# Altium schematic symbol library XC7A35T底板.SCHLIB: 69 symbols
Pins are listed as number, name and electrical type; pins without a type are passive.

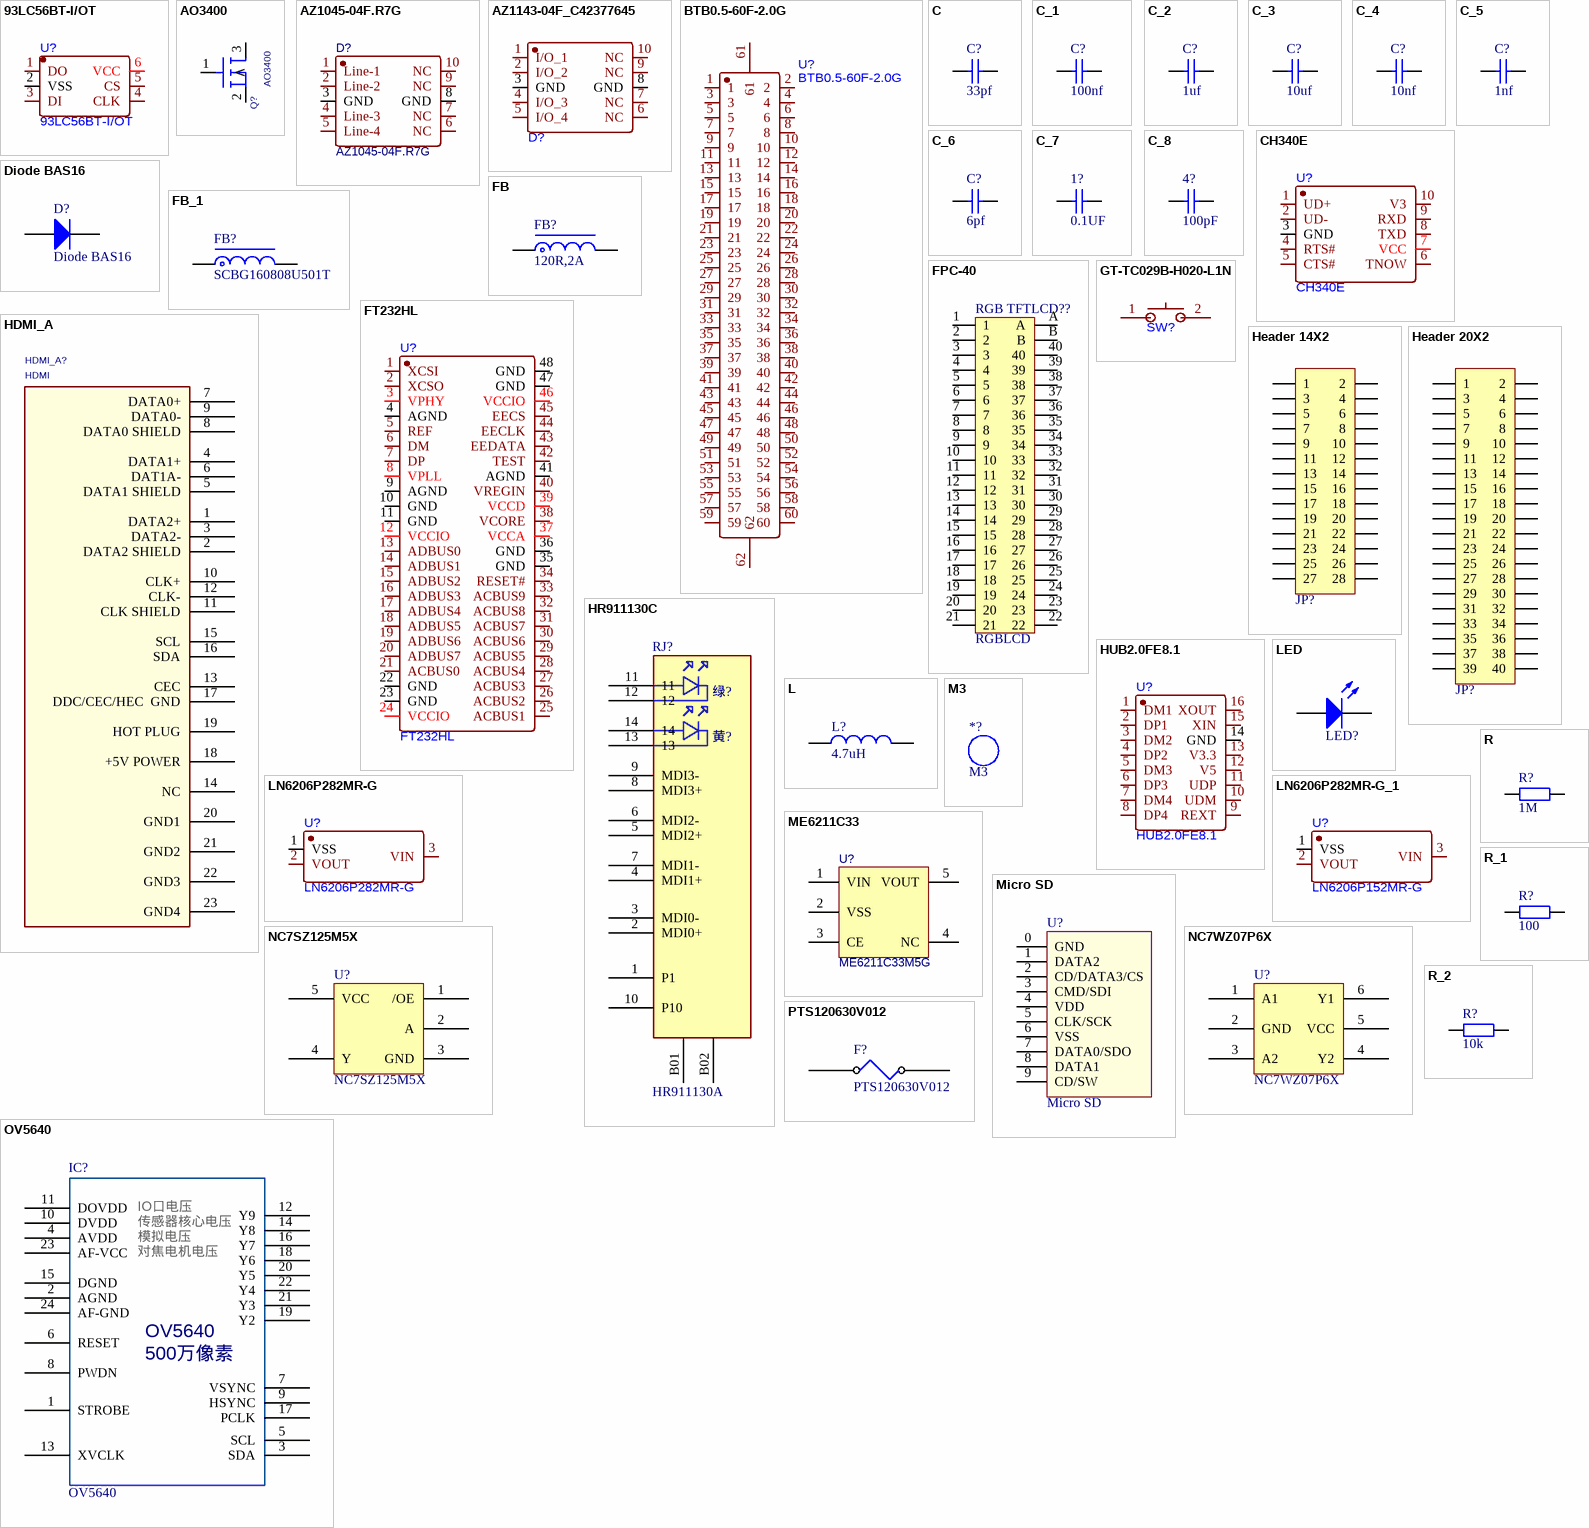
[diagram p0: symbols 93LC56BT-I/OT to R_2]

## 93LC56BT-I/OT
designator U?
footprint SOT-23-6_L2.9-W1.6-P0.95-LS2.8-BR
pins: 1 DO, 2 VSS, 3 DI, 4 CLK, 5 CS, 6 VCC

## AO3400
designator Q?
PSpiceTemplate: X^@REFDES %d %g %s @MODEL
footprint SOT23
simulation model AO3400
pins: 1 G, 2 S, 3 D

## AZ1045-04F.R7G
designator D?
BOM_Manufacturer: AMAZING; Contributor: LCSC; BOM_Supplier: LCSC; BOM_Supplier Part: C356811; BOM_Manufacturer Part: AZ1045-04F.R7G; spicePre: D; spiceSymbolName: AZ1045-04F.R7G
footprint DFN2510P10E
pins: 1 Line-1, 2 Line-2, 3 GND, 4 Line-3, 5 Line-4, 6 NC, 7 NC, 8 GND, 9 NC, 10 NC

## AZ1143-04F_C42377645
designator D?  (value not drawn)
footprint DFN-10_L2.5-W1.0-P0.50-BL-A
pins: 1 I/O_1, 2 I/O_2, 3 GND, 4 I/O_3, 5 I/O_4, 6 NC, 7 NC, 8 GND, 9 NC, 10 NC

## BTB0.5-60F-2.0G
designator U?
footprint CONN-SMD_60P-P0.50_BTB0.5-60F-2.0G
pins: 1, 2, 3, 4, 5, 6, 7, 8, 9, 10, 11, 12, 13, 14, 15, 16, 17, 18, 19, 20, 21, 22, 23, 24, 25, 26, 27, 28, 29, 30, 31, 32, 33, 34, 35, 36, 37, 38, 39, 40, 41, 42, 43, 44, 45, 46, 47, 48, 49, 50, 51, 52, 53, 54, 55, 56, 57, 58, 59, 60, 61, 62

## C
designator C?, comment 33pf
贴片电容/MLCC电容; BOM名称: 无极性贴片电容; 联系下单店铺卖家 免费帮你查找封装: 联系下单店铺卖家 免费技术支持
footprint C0201_L (贴片MLCC电容)
footprint C0402_L (贴片MLCC电容)
footprint C0603_L (贴片MLCC电容)
footprint C0805_L (贴片MLCC电容)
footprint C1206_L (贴片MLCC电容)
footprint C1210_L (贴片MLCC电容)
footprint C1808_L (贴片MLCC电容)
footprint C1812_L (贴片MLCC电容                  联系卖家 免费查找封装)
footprint C1825_L (贴片MLCC电容)
footprint C2225_L (贴片MLCC电容)
footprint C0201_M (贴片MLCC电容                联系卖家 免费查找封装)
footprint C0402_M (贴片MLCC电容)
footprint C0603_M (贴片MLCC电容)
footprint C0805_M (贴片MLCC电容)
footprint C1206_M (贴片MLCC电容)
footprint C1210_M (贴片MLCC电容)
footprint C1808_M (贴片MLCC电容)
footprint C1812_M (贴片MLCC电容)
footprint C1825_M (贴片MLCC电容      联系卖家 免费查找封装)
footprint C2225_M (贴片MLCC电容)
footprint C0201_NS (贴片MLCC电容-无丝印)
footprint C0402_NS (贴片MLCC电容-无丝印)
footprint C01005_NS (贴片MLCC电容-无丝印)
footprint C0805_NS (贴片MLCC电容-无丝印)
footprint C1206_NS (贴片MLCC电容-无丝印)
footprint C1210_NS (贴片MLCC电容 -无丝印)
footprint C0603_NS (贴片MLCC电容-无丝印)
footprint C0204_NS (贴片MLCC电容-无丝印)
footprint C1111_NS (贴片MLCC电容-无丝印)
footprint C2220 (贴片MLCC电容)
footprint C3838 (贴片MLCC电容-无丝印)
pins: 1, 2

## C_1
designator C?, comment 100nf
贴片电容/MLCC电容; BOM名称: 无极性贴片电容; 联系下单店铺卖家 免费帮你查找封装: 联系下单店铺卖家 免费技术支持
footprint C0201_L (贴片MLCC电容)
footprint C0402_L (贴片MLCC电容)
footprint C0603_L (贴片MLCC电容)
footprint C0805_L (贴片MLCC电容)
footprint C1206_L (贴片MLCC电容)
footprint C1210_L (贴片MLCC电容)
footprint C1808_L (贴片MLCC电容)
footprint C1812_L (贴片MLCC电容                  联系卖家 免费查找封装)
footprint C1825_L (贴片MLCC电容)
footprint C2225_L (贴片MLCC电容)
footprint C0201_M (贴片MLCC电容                联系卖家 免费查找封装)
footprint C0402_M (贴片MLCC电容)
footprint C0603_M (贴片MLCC电容)
footprint C0805_M (贴片MLCC电容)
footprint C1206_M (贴片MLCC电容)
footprint C1210_M (贴片MLCC电容)
footprint C1808_M (贴片MLCC电容)
footprint C1812_M (贴片MLCC电容)
footprint C1825_M (贴片MLCC电容      联系卖家 免费查找封装)
footprint C2225_M (贴片MLCC电容)
footprint C0201_NS (贴片MLCC电容-无丝印)
footprint C0402_NS (贴片MLCC电容-无丝印)
footprint C01005_NS (贴片MLCC电容-无丝印)
footprint C0805_NS (贴片MLCC电容-无丝印)
footprint C1206_NS (贴片MLCC电容-无丝印)
footprint C1210_NS (贴片MLCC电容 -无丝印)
footprint C0603_NS (贴片MLCC电容-无丝印)
footprint C0204_NS (贴片MLCC电容-无丝印)
footprint C1111_NS (贴片MLCC电容-无丝印)
footprint C2220 (贴片MLCC电容)
footprint C3838 (贴片MLCC电容-无丝印)
pins: 1, 2

## C_2
designator C?, comment 1uf
贴片电容/MLCC电容; BOM名称: 无极性贴片电容; 联系下单店铺卖家 免费帮你查找封装: 联系下单店铺卖家 免费技术支持
footprint C0201_L (贴片MLCC电容)
footprint C0402_L (贴片MLCC电容)
footprint C0603_L (贴片MLCC电容)
footprint C0805_L (贴片MLCC电容)
footprint C1206_L (贴片MLCC电容)
footprint C1210_L (贴片MLCC电容)
footprint C1808_L (贴片MLCC电容)
footprint C1812_L (贴片MLCC电容                  联系卖家 免费查找封装)
footprint C1825_L (贴片MLCC电容)
footprint C2225_L (贴片MLCC电容)
footprint C0201_M (贴片MLCC电容                联系卖家 免费查找封装)
footprint C0402_M (贴片MLCC电容)
footprint C0603_M (贴片MLCC电容)
footprint C0805_M (贴片MLCC电容)
footprint C1206_M (贴片MLCC电容)
footprint C1210_M (贴片MLCC电容)
footprint C1808_M (贴片MLCC电容)
footprint C1812_M (贴片MLCC电容)
footprint C1825_M (贴片MLCC电容      联系卖家 免费查找封装)
footprint C2225_M (贴片MLCC电容)
footprint C0201_NS (贴片MLCC电容-无丝印)
footprint C0402_NS (贴片MLCC电容-无丝印)
footprint C01005_NS (贴片MLCC电容-无丝印)
footprint C0805_NS (贴片MLCC电容-无丝印)
footprint C1206_NS (贴片MLCC电容-无丝印)
footprint C1210_NS (贴片MLCC电容 -无丝印)
footprint C0603_NS (贴片MLCC电容-无丝印)
footprint C0204_NS (贴片MLCC电容-无丝印)
footprint C1111_NS (贴片MLCC电容-无丝印)
footprint C2220 (贴片MLCC电容)
footprint C3838 (贴片MLCC电容-无丝印)
pins: 1, 2

## C_3
designator C?, comment 10uf
贴片电容/MLCC电容; BOM名称: 无极性贴片电容; 联系下单店铺卖家 免费帮你查找封装: 联系下单店铺卖家 免费技术支持
footprint C0201_L (贴片MLCC电容)
footprint C0402_L (贴片MLCC电容)
footprint C0603_L (贴片MLCC电容)
footprint C0805_L (贴片MLCC电容)
footprint C1206_L (贴片MLCC电容)
footprint C1210_L (贴片MLCC电容)
footprint C1808_L (贴片MLCC电容)
footprint C1812_L (贴片MLCC电容                  联系卖家 免费查找封装)
footprint C1825_L (贴片MLCC电容)
footprint C2225_L (贴片MLCC电容)
footprint C0201_M (贴片MLCC电容                联系卖家 免费查找封装)
footprint C0402_M (贴片MLCC电容)
footprint C0603_M (贴片MLCC电容)
footprint C0805_M (贴片MLCC电容)
footprint C1206_M (贴片MLCC电容)
footprint C1210_M (贴片MLCC电容)
footprint C1808_M (贴片MLCC电容)
footprint C1812_M (贴片MLCC电容)
footprint C1825_M (贴片MLCC电容      联系卖家 免费查找封装)
footprint C2225_M (贴片MLCC电容)
footprint C0201_NS (贴片MLCC电容-无丝印)
footprint C0402_NS (贴片MLCC电容-无丝印)
footprint C01005_NS (贴片MLCC电容-无丝印)
footprint C0805_NS (贴片MLCC电容-无丝印)
footprint C1206_NS (贴片MLCC电容-无丝印)
footprint C1210_NS (贴片MLCC电容 -无丝印)
footprint C0603_NS (贴片MLCC电容-无丝印)
footprint C0204_NS (贴片MLCC电容-无丝印)
footprint C1111_NS (贴片MLCC电容-无丝印)
footprint C2220 (贴片MLCC电容)
footprint C3838 (贴片MLCC电容-无丝印)
pins: 1, 2

## C_4
designator C?, comment 10nf
贴片电容/MLCC电容; BOM名称: 无极性贴片电容; 联系下单店铺卖家 免费帮你查找封装: 联系下单店铺卖家 免费技术支持
footprint C0201_L (贴片MLCC电容)
footprint C0402_L (贴片MLCC电容)
footprint C0603_L (贴片MLCC电容)
footprint C0805_L (贴片MLCC电容)
footprint C1206_L (贴片MLCC电容)
footprint C1210_L (贴片MLCC电容)
footprint C1808_L (贴片MLCC电容)
footprint C1812_L (贴片MLCC电容                  联系卖家 免费查找封装)
footprint C1825_L (贴片MLCC电容)
footprint C2225_L (贴片MLCC电容)
footprint C0201_M (贴片MLCC电容                联系卖家 免费查找封装)
footprint C0402_M (贴片MLCC电容)
footprint C0603_M (贴片MLCC电容)
footprint C0805_M (贴片MLCC电容)
footprint C1206_M (贴片MLCC电容)
footprint C1210_M (贴片MLCC电容)
footprint C1808_M (贴片MLCC电容)
footprint C1812_M (贴片MLCC电容)
footprint C1825_M (贴片MLCC电容      联系卖家 免费查找封装)
footprint C2225_M (贴片MLCC电容)
footprint C0201_NS (贴片MLCC电容-无丝印)
footprint C0402_NS (贴片MLCC电容-无丝印)
footprint C01005_NS (贴片MLCC电容-无丝印)
footprint C0805_NS (贴片MLCC电容-无丝印)
footprint C1206_NS (贴片MLCC电容-无丝印)
footprint C1210_NS (贴片MLCC电容 -无丝印)
footprint C0603_NS (贴片MLCC电容-无丝印)
footprint C0204_NS (贴片MLCC电容-无丝印)
footprint C1111_NS (贴片MLCC电容-无丝印)
footprint C2220 (贴片MLCC电容)
footprint C3838 (贴片MLCC电容-无丝印)
pins: 1, 2

## C_5
designator C?, comment 1nf
贴片电容/MLCC电容; BOM名称: 无极性贴片电容; 联系下单店铺卖家 免费帮你查找封装: 联系下单店铺卖家 免费技术支持
footprint C0201_L (贴片MLCC电容)
footprint C0402_L (贴片MLCC电容)
footprint C0603_L (贴片MLCC电容)
footprint C0805_L (贴片MLCC电容)
footprint C1206_L (贴片MLCC电容)
footprint C1210_L (贴片MLCC电容)
footprint C1808_L (贴片MLCC电容)
footprint C1812_L (贴片MLCC电容                  联系卖家 免费查找封装)
footprint C1825_L (贴片MLCC电容)
footprint C2225_L (贴片MLCC电容)
footprint C0201_M (贴片MLCC电容                联系卖家 免费查找封装)
footprint C0402_M (贴片MLCC电容)
footprint C0603_M (贴片MLCC电容)
footprint C0805_M (贴片MLCC电容)
footprint C1206_M (贴片MLCC电容)
footprint C1210_M (贴片MLCC电容)
footprint C1808_M (贴片MLCC电容)
footprint C1812_M (贴片MLCC电容)
footprint C1825_M (贴片MLCC电容      联系卖家 免费查找封装)
footprint C2225_M (贴片MLCC电容)
footprint C0201_NS (贴片MLCC电容-无丝印)
footprint C0402_NS (贴片MLCC电容-无丝印)
footprint C01005_NS (贴片MLCC电容-无丝印)
footprint C0805_NS (贴片MLCC电容-无丝印)
footprint C1206_NS (贴片MLCC电容-无丝印)
footprint C1210_NS (贴片MLCC电容 -无丝印)
footprint C0603_NS (贴片MLCC电容-无丝印)
footprint C0204_NS (贴片MLCC电容-无丝印)
footprint C1111_NS (贴片MLCC电容-无丝印)
footprint C2220 (贴片MLCC电容)
footprint C3838 (贴片MLCC电容-无丝印)
pins: 1, 2

## C_6
designator C?, comment 6pf
贴片电容/MLCC电容; BOM名称: 无极性贴片电容; 联系下单店铺卖家 免费帮你查找封装: 联系下单店铺卖家 免费技术支持
footprint C0201_L (贴片MLCC电容)
footprint C0402_L (贴片MLCC电容)
footprint C0603_L (贴片MLCC电容)
footprint C0805_L (贴片MLCC电容)
footprint C1206_L (贴片MLCC电容)
footprint C1210_L (贴片MLCC电容)
footprint C1808_L (贴片MLCC电容)
footprint C1812_L (贴片MLCC电容                  联系卖家 免费查找封装)
footprint C1825_L (贴片MLCC电容)
footprint C2225_L (贴片MLCC电容)
footprint C0201_M (贴片MLCC电容                联系卖家 免费查找封装)
footprint C0402_M (贴片MLCC电容)
footprint C0603_M (贴片MLCC电容)
footprint C0805_M (贴片MLCC电容)
footprint C1206_M (贴片MLCC电容)
footprint C1210_M (贴片MLCC电容)
footprint C1808_M (贴片MLCC电容)
footprint C1812_M (贴片MLCC电容)
footprint C1825_M (贴片MLCC电容      联系卖家 免费查找封装)
footprint C2225_M (贴片MLCC电容)
footprint C0201_NS (贴片MLCC电容-无丝印)
footprint C0402_NS (贴片MLCC电容-无丝印)
footprint C01005_NS (贴片MLCC电容-无丝印)
footprint C0805_NS (贴片MLCC电容-无丝印)
footprint C1206_NS (贴片MLCC电容-无丝印)
footprint C1210_NS (贴片MLCC电容 -无丝印)
footprint C0603_NS (贴片MLCC电容-无丝印)
footprint C0204_NS (贴片MLCC电容-无丝印)
footprint C1111_NS (贴片MLCC电容-无丝印)
footprint C2220 (贴片MLCC电容)
footprint C3838 (贴片MLCC电容-无丝印)
pins: 1, 2

## C_7
designator 1?, comment 0.1UF
贴片电容/MLCC电容; BOM名称: 无极性贴片电容; 联系下单店铺卖家 免费帮你查找封装: 联系下单店铺卖家 免费技术支持
footprint C0201_L (贴片MLCC电容)
footprint C0402_L (贴片MLCC电容)
footprint C0603_L (贴片MLCC电容)
footprint C0805_L (贴片MLCC电容)
footprint C1206_L (贴片MLCC电容)
footprint C1210_L (贴片MLCC电容)
footprint C1808_L (贴片MLCC电容)
footprint C1812_L (贴片MLCC电容                  联系卖家 免费查找封装)
footprint C1825_L (贴片MLCC电容)
footprint C2225_L (贴片MLCC电容)
footprint C0201_M (贴片MLCC电容                联系卖家 免费查找封装)
footprint C0402_M (贴片MLCC电容)
footprint C0603_M (贴片MLCC电容)
footprint C0805_M (贴片MLCC电容)
footprint C1206_M (贴片MLCC电容)
footprint C1210_M (贴片MLCC电容)
footprint C1808_M (贴片MLCC电容)
footprint C1812_M (贴片MLCC电容)
footprint C1825_M (贴片MLCC电容      联系卖家 免费查找封装)
footprint C2225_M (贴片MLCC电容)
footprint C0201_NS (贴片MLCC电容-无丝印)
footprint C0402_NS (贴片MLCC电容-无丝印)
footprint C01005_NS (贴片MLCC电容-无丝印)
footprint C0805_NS (贴片MLCC电容-无丝印)
footprint C1206_NS (贴片MLCC电容-无丝印)
footprint C1210_NS (贴片MLCC电容 -无丝印)
footprint C0603_NS (贴片MLCC电容-无丝印)
footprint C0204_NS (贴片MLCC电容-无丝印)
footprint C1111_NS (贴片MLCC电容-无丝印)
footprint C2220 (贴片MLCC电容)
footprint C3838 (贴片MLCC电容-无丝印)
pins: 1, 2

## C_8
designator 4?, comment 100pF
贴片电容/MLCC电容; BOM名称: 无极性贴片电容; 联系下单店铺卖家 免费帮你查找封装: 联系下单店铺卖家 免费技术支持
footprint C0201_L (贴片MLCC电容)
footprint C0402_L (贴片MLCC电容)
footprint C0603_L (贴片MLCC电容)
footprint C0805_L (贴片MLCC电容)
footprint C1206_L (贴片MLCC电容)
footprint C1210_L (贴片MLCC电容)
footprint C1808_L (贴片MLCC电容)
footprint C1812_L (贴片MLCC电容                  联系卖家 免费查找封装)
footprint C1825_L (贴片MLCC电容)
footprint C2225_L (贴片MLCC电容)
footprint C0201_M (贴片MLCC电容                联系卖家 免费查找封装)
footprint C0402_M (贴片MLCC电容)
footprint C0603_M (贴片MLCC电容)
footprint C0805_M (贴片MLCC电容)
footprint C1206_M (贴片MLCC电容)
footprint C1210_M (贴片MLCC电容)
footprint C1808_M (贴片MLCC电容)
footprint C1812_M (贴片MLCC电容)
footprint C1825_M (贴片MLCC电容      联系卖家 免费查找封装)
footprint C2225_M (贴片MLCC电容)
footprint C0201_NS (贴片MLCC电容-无丝印)
footprint C0402_NS (贴片MLCC电容-无丝印)
footprint C01005_NS (贴片MLCC电容-无丝印)
footprint C0805_NS (贴片MLCC电容-无丝印)
footprint C1206_NS (贴片MLCC电容-无丝印)
footprint C1210_NS (贴片MLCC电容 -无丝印)
footprint C0603_NS (贴片MLCC电容-无丝印)
footprint C0204_NS (贴片MLCC电容-无丝印)
footprint C1111_NS (贴片MLCC电容-无丝印)
footprint C2220 (贴片MLCC电容)
footprint C3838 (贴片MLCC电容-无丝印)
pins: 1, 2

## CH340E
designator U?
footprint MSOP-10_L3.0-W3.0-P0.50-LS5.0-BL
pins: 1 UD+, 2 UD-, 3 GND, 4 RTS#, 5 CTS#, 6 TNOW, 7 VCC, 8 TXD, 9 RXD, 10 V3

## Diode BAS16
designator D?
Silicon Switching Diode for High-Speed Switching; Note: Pin 2 is not connected and not drawn.; Published: 21-Mar-2003; LatestRevisionDate: 29-May-2009; LatestRevisionNote: IPC-7351 Footprint Added.; DatasheetVersion: Oct-1999; PackageVersion: Sep-2001; PackageReference: SOT-23; Publisher: Altium Limited; PackageDescription: 3-Pin SOT-23 Package 0.95 mm Pitch, 2.5 mm Lead Span; ComponentLink1Description: Manufacturer Link; ComponentLink1URL: http://www.infineon.com/; ComponentLink2Description: Datasheet; ComponentLink2URL: http://www.infineon.com/upload/Document/cmc_upload/documents/012/5331/bas16series.pdf
footprint SOT-23_N (SOT23, 3-Leads, Body 2.9x1.3mm, Pitch 0.95mm, Lead Span 2.5mm, IPC Medium Density)
footprint SOT-23_L (SOT23, 3-Leads, Body 2.9x1.3mm, Pitch 0.95mm, Lead Span 2.5mm, IPC High Density)
footprint SOT-23_M (SOT23, 3-Leads, Body 2.9x1.3mm, Pitch 0.95mm, Lead Span 2.5mm, IPC Low Density)
simulation model BAS16 (SUBCKT)
pins: 1 A, 3 K

## FB
designator FB?, comment 120R,2A
贴片磁珠; BOM名称: 直插磁珠; 联系下单店铺卖家 免费帮你查找封装: 联系下单店铺卖家 免费技术支持
footprint FB0201 (0201贴片磁珠)
footprint FB0402 (0402贴片磁珠)
footprint FB0603 (0603贴片磁珠)
footprint FB0805 (0805贴片磁珠)
footprint FB1206 (1206贴片磁珠)
footprint FB1806 (1806贴片磁珠)
footprint FB1812 (1812贴片磁珠)
footprint FB01005_NS (01005贴片磁珠)
pins: 1, 2

## FB_1
designator FB?, comment SCBG160808U501T
贴片磁珠; BOM名称: 直插磁珠; 联系下单店铺卖家 免费帮你查找封装: 联系下单店铺卖家 免费技术支持
footprint FB0201 (0201贴片磁珠)
footprint FB0402 (0402贴片磁珠)
footprint FB0603 (0603贴片磁珠)
footprint FB0805 (0805贴片磁珠)
footprint FB1206 (1206贴片磁珠)
footprint FB1806 (1806贴片磁珠)
footprint FB1812 (1812贴片磁珠)
footprint FB01005_NS (01005贴片磁珠)
pins: 1, 2

## FPC-40
designator RGB TFTLCD??, comment RGBLCD
FPC-40P-0.5mm
footprint FPC-TOP40 (FPCTOP;0.5mm;)
pins: 1, 2, 3, 4, 5, 6, 7, 8, 9, 10, 11, 12, 13, 14, 15, 16, 17, 18, 19, 20, 21, 22, 23, 24, 25, 26, 27, 28, 29, 30, 31, 32, 33, 34, 35, 36, 37, 38, 39, 40, A, B

## FT232HL
designator U?
footprint LQFP-48_L7.0-W7.0-P0.50-LS9.0-TL
pins: 1 XCSI, 2 XCSO, 3 VPHY, 4 AGND, 5 REF, 6 DM, 7 DP, 8 VPLL, 9 AGND, 10 GND, 11 GND, 12 VCCIO, 13 ADBUS0, 14 ADBUS1, 15 ADBUS2, 16 ADBUS3, 17 ADBUS4, 18 ADBUS5, 19 ADBUS6, 20 ADBUS7, 21 ACBUS0, 22 GND, 23 GND, 24 VCCIO, 25 ACBUS1, 26 ACBUS2, 27 ACBUS3, 28 ACBUS4, 29 ACBUS5, 30 ACBUS6, 31 ACBUS7, 32 ACBUS8, 33 ACBUS9, 34 RESET#, 35 GND, 36 GND, 37 VCCA, 38 VCORE, 39 VCCD, 40 VREGIN, 41 AGND, 42 TEST, 43 EEDATA, 44 EECLK, 45 EECS, 46 VCCIO, 47 GND, 48 GND

## GT-TC029B-H020-L1N
designator SW?  (value not drawn)
footprint SW-SMD_L3.9-W2.9-P4.15-LS5.0
pins: 1, 2

## HDMI_A
designator HDMI_A?, comment HDMI
footprint hdmi_dip_ra
footprint HDMI_SMD_A
pins: 1 DATA2+, 2 DATA2 SHIELD, 3 DATA2-, 4 DATA1+, 5 DATA1 SHIELD, 6 DAT1A-, 7 DATA0+, 8 DATA0 SHIELD, 9 DATA0-, 10 CLK+, 11 CLK SHIELD, 12 CLK-, 13 CEC, 14 NC, 15 SCL, 16 SDA, 17 DDC/CEC/HEC  GND, 18 +5V POWER, 19 HOT PLUG, 20 GND1, 21 GND2, 22 GND3, 23 GND4

## Header 14X2
designator JP?, comment Header 2X11  (value not drawn)
14*2P接插件; 联系卖家，免费查找封装: 唯一出售店铺网址https://shop463601444.taobao.com; 封装库来自淘宝卖家ID：黄晶宝石: 其他店铺购入均为盗版封装库，请立即申请退款，本店现金奖励50~200元; BOM名称: 14*2P接插件
footprint HDR2.54-LI-2x14P (双排排针，14x2脚)
footprint HDR2.54-M-LS-2x14P (脚距：2.54mm，贴片双排母)
footprint HDR2.54-WI-2x14P (双排弯脚排针，14x2脚)
pins: 1, 2, 3, 4, 5, 6, 7, 8, 9, 10, 11, 12, 13, 14, 15, 16, 17, 18, 19, 20, 21, 22, 23, 24, 25, 26, 27, 28

## Header 20X2
designator JP?, comment Header 2X11  (value not drawn)
20*2P接插件; 联系卖家，免费查找封装: 唯一出售店铺网址https://shop463601444.taobao.com; 封装库来自淘宝卖家ID：黄晶宝石: 其他店铺购入均为盗版封装库，请立即申请退款，本店现金奖励50~200元; BOM名称: 20*2P接插件
footprint IDC2.54-LI-2x20P (40P简易牛角座)
footprint HDR2.54-LI-2x20P (双排排针，20x2脚)
footprint HDR2.54-M-LS-2x20P (脚距：2.54mm，贴片双排母)
footprint HDR2.54-WI-2x20P (双排弯脚排针，20x2脚)
pins: 1, 2, 3, 4, 5, 6, 7, 8, 9, 10, 11, 12, 13, 14, 15, 16, 17, 18, 19, 20, 21, 22, 23, 24, 25, 26, 27, 28, 29, 30, 31, 32, 33, 34, 35, 36, 37, 38, 39, 40

## HR911130C
designator RJ?, comment HR911130A
RJ45 + MAG
footprint HR911130C_RJ45
pins: 1 P1, 2 MDI0+, 3 MDI0-, 4 MDI1+, 5 MDI2+, 6 MDI2-, 7 MDI1-, 8 MDI3+, 9 MDI3-, 10 P10, 11, 12, 13, 14, B01, B02
text: 绿?; 黄?

## HUB2.0FE8.1
designator U?
footprint SSOP-16_L4.9-W3.9-P0.64-LS6.0-BL
pins: 1 DM1, 2 DP1, 3 DM2, 4 DP2, 5 DM3, 6 DP3, 7 DM4, 8 DP4, 9 REXT, 10 UDM, 11 UDP, 12 V5, 13 V3.3, 14 GND, 15 XIN, 16 XOUT

## L
designator L?, comment 4.7uH
贴片小功率电感; BOM名称: 小功率贴片电感; 联系下单店铺卖家 免费帮你查找封装: 联系下单店铺卖家 免费技术支持
footprint L0402 (0402贴片叠层电感)
footprint L0603 (0603贴片叠层电感)
footprint L0805 (0805贴片叠层电感)
footprint L1206 (1206贴片叠层电感)
footprint L1210 (1210贴片叠层电感)
footprint L1806 (1806贴片叠层电感)
footprint L1812 (1812贴片叠层电感)
footprint L0201 (0201贴片叠层电感)
footprint L01005_NS (01005贴片叠层电感)
pins: 1, 2

## LED
designator LED?, comment 绿色  (value not drawn)
贴片LED; 封装库来自淘宝卖家：黄晶宝石: 其他店铺购入均为盗版封装库，无更新权益，请立即申请退款，本店现金奖励200~1000元; BOM名称: 贴片LED
footprint LED0603_W (白色0603LED)
footprint LED0603_R (红色0603LED)
footprint LED0603_B (蓝色0603LED)
footprint LED0603_G (绿色0603LED)
footprint LED0603_Y (黄色0603LED)
footprint LED0805_G (绿色0805LED)
footprint LED0805_R (红色0805LED)
footprint LED0805_B (蓝色0805LED)
footprint LED0805_Y (黄色0805LED)
footprint LED 3528-2Pin (2脚，3528LED)
footprint LED1206_G (绿色1206LED)
footprint LED 5730-V (紫色5730LED)
footprint LED1206_Y (黄色1206LED)
footprint LED0805_W (白色0805LED)
footprint LED1206_B (蓝色1206LED)
footprint LED1206_W (白色1206LED)
footprint LED1206_R (红色1206LED)
footprint LED0402_B (蓝色0402LED)
footprint LED0402_G (绿色0402LED)
footprint LED0402_R (红色0402LED)
footprint LED0402_W (白色0402LED)
footprint LED0402_Y (黄色0402LED)
footprint LED0201 (0201 LED)
pins: 1 A, 2 K

## LN6206P282MR-G
designator U?
footprint SOT-23-3_L2.9-W1.3-P1.90-LS2.4-BR
pins: 1 VSS, 2 VOUT, 3 VIN

## LN6206P282MR-G_1
designator U?, comment LN6206P152MR-G
footprint SOT-23-3_L2.9-W1.3-P1.90-LS2.4-BR
pins: 1 VSS, 2 VOUT, 3 VIN

## M3
designator *?
铜柱孔; 联系下单店铺卖家 免费技术支持: 联系下单店铺卖家 免费帮你查找封装; BOM名称: 铜柱孔
footprint M3 140X350 (M3螺丝孔，孔140Mil，焊盘350Mil)
footprint M3 125X300 (M3螺丝孔，孔125Mil，焊盘300Mil)
footprint M3 125X200 (M3螺丝孔，孔125Mil，焊盘200Mil)

## ME6211C33
designator U?, comment ME6211C33M5G
LDO 3.3V/0.5A; BOM名称: RT9193-30GB; 当前库版本V2023.10.25 @淘宝卖家:黄晶宝石: 最新版本发布https://item.taobao.com/item.htm?id=566775463719
footprint SOT-23-5 (SOT23, 5-Leads, Body 2.9x1.6mm, Pitch 0.95mm, IPC Medium Density)
pins: 1 VIN, 2 VSS, 3 CE, 4 NC, 5 VOUT

## Micro SD
designator U?
Micro SD卡; 版权归属: 源创客; BOM名称: Micro SD卡; 学习资源: www.ooocke.com
footprint Micro SD
pins: 0 GND, 1 DATA2, 2 CD/DATA3/CS, 3 CMD/SDI, 4 VDD, 5 CLK/SCK, 6 VSS, 7 DATA0/SDO, 8 DATA1, 9 CD/SW

## NC7SZ125M5X
designator U?
footprint NC7SZ125M5X
pins: 1 /OE, 2 A, 3 GND, 4 Y, 5 VCC

## NC7WZ07P6X
designator U?
footprint NC7WZ07P6X
pins: 1 A1, 2 GND, 3 A2, 4 Y2, 5 VCC, 6 Y1

## OV5640
designator IC?
footprint OV2640
pins: 1 STROBE, 2 AGND, 3 SDA, 4 AVDD, 5 SCL, 6 RESET, 7 VSYNC, 8 PWDN, 9 HSYNC, 10 DVDD, 11 DOVDD, 12 Y9, 13 XVCLK, 14 Y8, 15 DGND, 16 Y7, 17 PCLK, 18 Y6, 19 Y2, 20 Y5, 21 Y3, 22 Y4, 23 AF-VCC, 24 AF-GND
text: IO口电压; 传感器核心电压; 模拟电压; 对焦电机电压; 500万像素

## PTS120630V012
designator F?
footprint FU 1206
pins: 1, 2

## R
designator R?, comment 1M
贴片电阻; 联系下单店铺卖家 免费帮你查找封装: 联系下单店铺卖家 免费技术支持; BOM名称: 贴片电阻
footprint R0201_L (1/20W贴片电阻)
footprint R0402_L (1/16W贴片电阻)
footprint R0603_L (1/10W贴片电阻)
footprint R0805_L (1/8W贴片电阻)
footprint R1206_L (1/4W贴片电阻)
footprint R1210_L (1/3W贴片电阻)
footprint R1812_L (1/2W贴片电阻)
footprint R2010_L (3/4W贴片电阻)
footprint R2512_L (1W贴片电阻)
footprint R0201_M (1/20W贴片电阻)
footprint R0402_M (1/16W贴片电阻)
footprint R0603_M (1/10W贴片电阻)
footprint R0805_M (1/8W贴片电阻)
footprint R1206_M (1/4W贴片电阻)
footprint R1210_M (1/3W贴片电阻)
footprint R1812_M (1/2W贴片电阻)
footprint R2010_M (3/4W贴片电阻)
footprint R2512_M (1W贴片电阻)
footprint R0201_NS (1/20W贴片电阻-无丝印)
footprint R0402_NS (1/16W贴片电阻-无丝印)
footprint R01005_NS (1/32W贴片电阻-无丝印)
footprint R0603_NS (1/10W贴片电阻-无丝印)
footprint R0805_NS (1/8W贴片电阻-无丝印)
footprint R1206_NS (1/4W贴片电阻-无丝印)
footprint R1210_NS (1/3W贴片电阻)
pins: 1, 2

## R_1
designator R?, comment 100
贴片电阻; 联系下单店铺卖家 免费帮你查找封装: 联系下单店铺卖家 免费技术支持; BOM名称: 贴片电阻
footprint R0201_L (1/20W贴片电阻)
footprint R0402_L (1/16W贴片电阻)
footprint R0603_L (1/10W贴片电阻)
footprint R0805_L (1/8W贴片电阻)
footprint R1206_L (1/4W贴片电阻)
footprint R1210_L (1/3W贴片电阻)
footprint R1812_L (1/2W贴片电阻)
footprint R2010_L (3/4W贴片电阻)
footprint R2512_L (1W贴片电阻)
footprint R0201_M (1/20W贴片电阻)
footprint R0402_M (1/16W贴片电阻)
footprint R0603_M (1/10W贴片电阻)
footprint R0805_M (1/8W贴片电阻)
footprint R1206_M (1/4W贴片电阻)
footprint R1210_M (1/3W贴片电阻)
footprint R1812_M (1/2W贴片电阻)
footprint R2010_M (3/4W贴片电阻)
footprint R2512_M (1W贴片电阻)
footprint R0201_NS (1/20W贴片电阻-无丝印)
footprint R0402_NS (1/16W贴片电阻-无丝印)
footprint R01005_NS (1/32W贴片电阻-无丝印)
footprint R0603_NS (1/10W贴片电阻-无丝印)
footprint R0805_NS (1/8W贴片电阻-无丝印)
footprint R1206_NS (1/4W贴片电阻-无丝印)
footprint R1210_NS (1/3W贴片电阻)
pins: 1, 2

## R_2
designator R?, comment 10k
贴片电阻; 联系下单店铺卖家 免费帮你查找封装: 联系下单店铺卖家 免费技术支持; BOM名称: 贴片电阻
footprint R0201_L (1/20W贴片电阻)
footprint R0402_L (1/16W贴片电阻)
footprint R0603_L (1/10W贴片电阻)
footprint R0805_L (1/8W贴片电阻)
footprint R1206_L (1/4W贴片电阻)
footprint R1210_L (1/3W贴片电阻)
footprint R1812_L (1/2W贴片电阻)
footprint R2010_L (3/4W贴片电阻)
footprint R2512_L (1W贴片电阻)
footprint R0201_M (1/20W贴片电阻)
footprint R0402_M (1/16W贴片电阻)
footprint R0603_M (1/10W贴片电阻)
footprint R0805_M (1/8W贴片电阻)
footprint R1206_M (1/4W贴片电阻)
footprint R1210_M (1/3W贴片电阻)
footprint R1812_M (1/2W贴片电阻)
footprint R2010_M (3/4W贴片电阻)
footprint R2512_M (1W贴片电阻)
footprint R0201_NS (1/20W贴片电阻-无丝印)
footprint R0402_NS (1/16W贴片电阻-无丝印)
footprint R01005_NS (1/32W贴片电阻-无丝印)
footprint R0603_NS (1/10W贴片电阻-无丝印)
footprint R0805_NS (1/8W贴片电阻-无丝印)
footprint R1206_NS (1/4W贴片电阻-无丝印)
footprint R1210_NS (1/3W贴片电阻)
pins: 1, 2

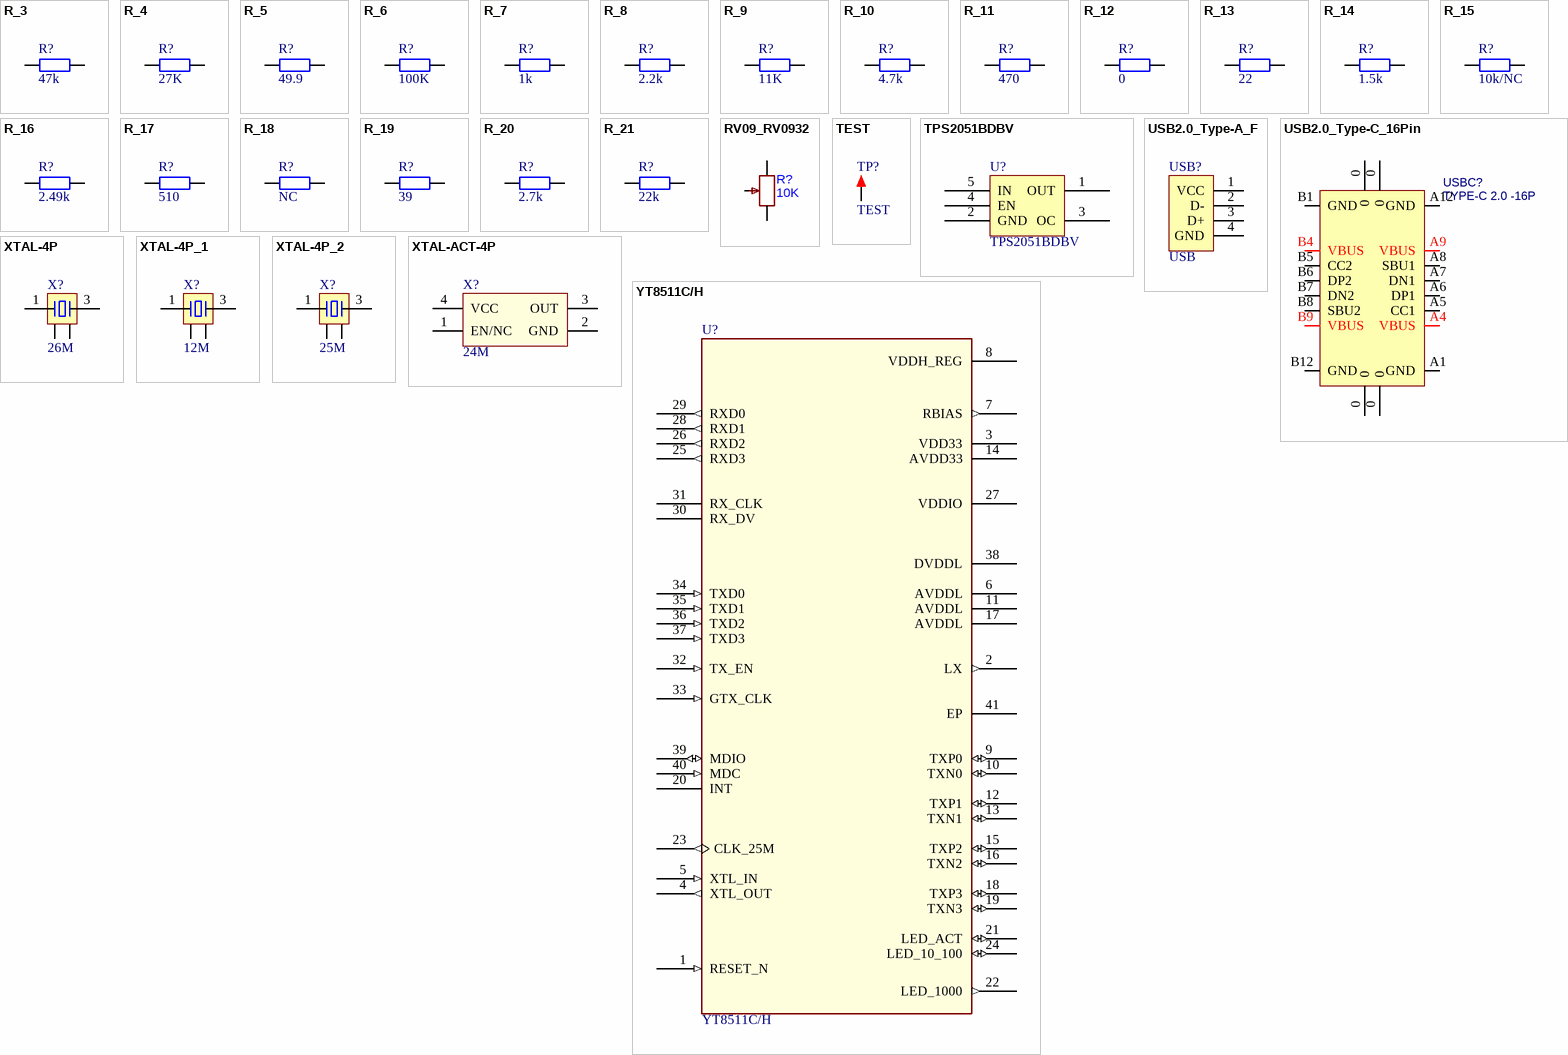
[diagram p1: symbols R_3 to YT8511C/H]

## R_3
designator R?, comment 47k
贴片电阻; 联系下单店铺卖家 免费帮你查找封装: 联系下单店铺卖家 免费技术支持; BOM名称: 贴片电阻
footprint R0201_L (1/20W贴片电阻)
footprint R0402_L (1/16W贴片电阻)
footprint R0603_L (1/10W贴片电阻)
footprint R0805_L (1/8W贴片电阻)
footprint R1206_L (1/4W贴片电阻)
footprint R1210_L (1/3W贴片电阻)
footprint R1812_L (1/2W贴片电阻)
footprint R2010_L (3/4W贴片电阻)
footprint R2512_L (1W贴片电阻)
footprint R0201_M (1/20W贴片电阻)
footprint R0402_M (1/16W贴片电阻)
footprint R0603_M (1/10W贴片电阻)
footprint R0805_M (1/8W贴片电阻)
footprint R1206_M (1/4W贴片电阻)
footprint R1210_M (1/3W贴片电阻)
footprint R1812_M (1/2W贴片电阻)
footprint R2010_M (3/4W贴片电阻)
footprint R2512_M (1W贴片电阻)
footprint R0201_NS (1/20W贴片电阻-无丝印)
footprint R0402_NS (1/16W贴片电阻-无丝印)
footprint R01005_NS (1/32W贴片电阻-无丝印)
footprint R0603_NS (1/10W贴片电阻-无丝印)
footprint R0805_NS (1/8W贴片电阻-无丝印)
footprint R1206_NS (1/4W贴片电阻-无丝印)
footprint R1210_NS (1/3W贴片电阻)
pins: 1, 2

## R_4
designator R?, comment 27K
贴片电阻; 联系下单店铺卖家 免费帮你查找封装: 联系下单店铺卖家 免费技术支持; BOM名称: 贴片电阻
footprint R0201_L (1/20W贴片电阻)
footprint R0402_L (1/16W贴片电阻)
footprint R0603_L (1/10W贴片电阻)
footprint R0805_L (1/8W贴片电阻)
footprint R1206_L (1/4W贴片电阻)
footprint R1210_L (1/3W贴片电阻)
footprint R1812_L (1/2W贴片电阻)
footprint R2010_L (3/4W贴片电阻)
footprint R2512_L (1W贴片电阻)
footprint R0201_M (1/20W贴片电阻)
footprint R0402_M (1/16W贴片电阻)
footprint R0603_M (1/10W贴片电阻)
footprint R0805_M (1/8W贴片电阻)
footprint R1206_M (1/4W贴片电阻)
footprint R1210_M (1/3W贴片电阻)
footprint R1812_M (1/2W贴片电阻)
footprint R2010_M (3/4W贴片电阻)
footprint R2512_M (1W贴片电阻)
footprint R0201_NS (1/20W贴片电阻-无丝印)
footprint R0402_NS (1/16W贴片电阻-无丝印)
footprint R01005_NS (1/32W贴片电阻-无丝印)
footprint R0603_NS (1/10W贴片电阻-无丝印)
footprint R0805_NS (1/8W贴片电阻-无丝印)
footprint R1206_NS (1/4W贴片电阻-无丝印)
footprint R1210_NS (1/3W贴片电阻)
pins: 1, 2

## R_5
designator R?, comment 49.9
贴片电阻; 联系下单店铺卖家 免费帮你查找封装: 联系下单店铺卖家 免费技术支持; BOM名称: 贴片电阻
footprint R0201_L (1/20W贴片电阻)
footprint R0402_L (1/16W贴片电阻)
footprint R0603_L (1/10W贴片电阻)
footprint R0805_L (1/8W贴片电阻)
footprint R1206_L (1/4W贴片电阻)
footprint R1210_L (1/3W贴片电阻)
footprint R1812_L (1/2W贴片电阻)
footprint R2010_L (3/4W贴片电阻)
footprint R2512_L (1W贴片电阻)
footprint R0201_M (1/20W贴片电阻)
footprint R0402_M (1/16W贴片电阻)
footprint R0603_M (1/10W贴片电阻)
footprint R0805_M (1/8W贴片电阻)
footprint R1206_M (1/4W贴片电阻)
footprint R1210_M (1/3W贴片电阻)
footprint R1812_M (1/2W贴片电阻)
footprint R2010_M (3/4W贴片电阻)
footprint R2512_M (1W贴片电阻)
footprint R0201_NS (1/20W贴片电阻-无丝印)
footprint R0402_NS (1/16W贴片电阻-无丝印)
footprint R01005_NS (1/32W贴片电阻-无丝印)
footprint R0603_NS (1/10W贴片电阻-无丝印)
footprint R0805_NS (1/8W贴片电阻-无丝印)
footprint R1206_NS (1/4W贴片电阻-无丝印)
footprint R1210_NS (1/3W贴片电阻)
pins: 1, 2

## R_6
designator R?, comment 100K
贴片电阻; 联系下单店铺卖家 免费帮你查找封装: 联系下单店铺卖家 免费技术支持; BOM名称: 贴片电阻
footprint R0201_L (1/20W贴片电阻)
footprint R0402_L (1/16W贴片电阻)
footprint R0603_L (1/10W贴片电阻)
footprint R0805_L (1/8W贴片电阻)
footprint R1206_L (1/4W贴片电阻)
footprint R1210_L (1/3W贴片电阻)
footprint R1812_L (1/2W贴片电阻)
footprint R2010_L (3/4W贴片电阻)
footprint R2512_L (1W贴片电阻)
footprint R0201_M (1/20W贴片电阻)
footprint R0402_M (1/16W贴片电阻)
footprint R0603_M (1/10W贴片电阻)
footprint R0805_M (1/8W贴片电阻)
footprint R1206_M (1/4W贴片电阻)
footprint R1210_M (1/3W贴片电阻)
footprint R1812_M (1/2W贴片电阻)
footprint R2010_M (3/4W贴片电阻)
footprint R2512_M (1W贴片电阻)
footprint R0201_NS (1/20W贴片电阻-无丝印)
footprint R0402_NS (1/16W贴片电阻-无丝印)
footprint R01005_NS (1/32W贴片电阻-无丝印)
footprint R0603_NS (1/10W贴片电阻-无丝印)
footprint R0805_NS (1/8W贴片电阻-无丝印)
footprint R1206_NS (1/4W贴片电阻-无丝印)
footprint R1210_NS (1/3W贴片电阻)
pins: 1, 2

## R_7
designator R?, comment 1k
贴片电阻; 联系下单店铺卖家 免费帮你查找封装: 联系下单店铺卖家 免费技术支持; BOM名称: 贴片电阻
footprint R0201_L (1/20W贴片电阻)
footprint R0402_L (1/16W贴片电阻)
footprint R0603_L (1/10W贴片电阻)
footprint R0805_L (1/8W贴片电阻)
footprint R1206_L (1/4W贴片电阻)
footprint R1210_L (1/3W贴片电阻)
footprint R1812_L (1/2W贴片电阻)
footprint R2010_L (3/4W贴片电阻)
footprint R2512_L (1W贴片电阻)
footprint R0201_M (1/20W贴片电阻)
footprint R0402_M (1/16W贴片电阻)
footprint R0603_M (1/10W贴片电阻)
footprint R0805_M (1/8W贴片电阻)
footprint R1206_M (1/4W贴片电阻)
footprint R1210_M (1/3W贴片电阻)
footprint R1812_M (1/2W贴片电阻)
footprint R2010_M (3/4W贴片电阻)
footprint R2512_M (1W贴片电阻)
footprint R0201_NS (1/20W贴片电阻-无丝印)
footprint R0402_NS (1/16W贴片电阻-无丝印)
footprint R01005_NS (1/32W贴片电阻-无丝印)
footprint R0603_NS (1/10W贴片电阻-无丝印)
footprint R0805_NS (1/8W贴片电阻-无丝印)
footprint R1206_NS (1/4W贴片电阻-无丝印)
footprint R1210_NS (1/3W贴片电阻)
pins: 1, 2

## R_8
designator R?, comment 2.2k
贴片电阻; 联系下单店铺卖家 免费帮你查找封装: 联系下单店铺卖家 免费技术支持; BOM名称: 贴片电阻
footprint R0201_L (1/20W贴片电阻)
footprint R0402_L (1/16W贴片电阻)
footprint R0603_L (1/10W贴片电阻)
footprint R0805_L (1/8W贴片电阻)
footprint R1206_L (1/4W贴片电阻)
footprint R1210_L (1/3W贴片电阻)
footprint R1812_L (1/2W贴片电阻)
footprint R2010_L (3/4W贴片电阻)
footprint R2512_L (1W贴片电阻)
footprint R0201_M (1/20W贴片电阻)
footprint R0402_M (1/16W贴片电阻)
footprint R0603_M (1/10W贴片电阻)
footprint R0805_M (1/8W贴片电阻)
footprint R1206_M (1/4W贴片电阻)
footprint R1210_M (1/3W贴片电阻)
footprint R1812_M (1/2W贴片电阻)
footprint R2010_M (3/4W贴片电阻)
footprint R2512_M (1W贴片电阻)
footprint R0201_NS (1/20W贴片电阻-无丝印)
footprint R0402_NS (1/16W贴片电阻-无丝印)
footprint R01005_NS (1/32W贴片电阻-无丝印)
footprint R0603_NS (1/10W贴片电阻-无丝印)
footprint R0805_NS (1/8W贴片电阻-无丝印)
footprint R1206_NS (1/4W贴片电阻-无丝印)
footprint R1210_NS (1/3W贴片电阻)
pins: 1, 2

## R_9
designator R?, comment 11K
贴片电阻; 联系下单店铺卖家 免费帮你查找封装: 联系下单店铺卖家 免费技术支持; BOM名称: 贴片电阻
footprint R0201_L (1/20W贴片电阻)
footprint R0402_L (1/16W贴片电阻)
footprint R0603_L (1/10W贴片电阻)
footprint R0805_L (1/8W贴片电阻)
footprint R1206_L (1/4W贴片电阻)
footprint R1210_L (1/3W贴片电阻)
footprint R1812_L (1/2W贴片电阻)
footprint R2010_L (3/4W贴片电阻)
footprint R2512_L (1W贴片电阻)
footprint R0201_M (1/20W贴片电阻)
footprint R0402_M (1/16W贴片电阻)
footprint R0603_M (1/10W贴片电阻)
footprint R0805_M (1/8W贴片电阻)
footprint R1206_M (1/4W贴片电阻)
footprint R1210_M (1/3W贴片电阻)
footprint R1812_M (1/2W贴片电阻)
footprint R2010_M (3/4W贴片电阻)
footprint R2512_M (1W贴片电阻)
footprint R0201_NS (1/20W贴片电阻-无丝印)
footprint R0402_NS (1/16W贴片电阻-无丝印)
footprint R01005_NS (1/32W贴片电阻-无丝印)
footprint R0603_NS (1/10W贴片电阻-无丝印)
footprint R0805_NS (1/8W贴片电阻-无丝印)
footprint R1206_NS (1/4W贴片电阻-无丝印)
footprint R1210_NS (1/3W贴片电阻)
pins: 1, 2

## R_10
designator R?, comment 4.7k
贴片电阻; 联系下单店铺卖家 免费帮你查找封装: 联系下单店铺卖家 免费技术支持; BOM名称: 贴片电阻
footprint R0201_L (1/20W贴片电阻)
footprint R0402_L (1/16W贴片电阻)
footprint R0603_L (1/10W贴片电阻)
footprint R0805_L (1/8W贴片电阻)
footprint R1206_L (1/4W贴片电阻)
footprint R1210_L (1/3W贴片电阻)
footprint R1812_L (1/2W贴片电阻)
footprint R2010_L (3/4W贴片电阻)
footprint R2512_L (1W贴片电阻)
footprint R0201_M (1/20W贴片电阻)
footprint R0402_M (1/16W贴片电阻)
footprint R0603_M (1/10W贴片电阻)
footprint R0805_M (1/8W贴片电阻)
footprint R1206_M (1/4W贴片电阻)
footprint R1210_M (1/3W贴片电阻)
footprint R1812_M (1/2W贴片电阻)
footprint R2010_M (3/4W贴片电阻)
footprint R2512_M (1W贴片电阻)
footprint R0201_NS (1/20W贴片电阻-无丝印)
footprint R0402_NS (1/16W贴片电阻-无丝印)
footprint R01005_NS (1/32W贴片电阻-无丝印)
footprint R0603_NS (1/10W贴片电阻-无丝印)
footprint R0805_NS (1/8W贴片电阻-无丝印)
footprint R1206_NS (1/4W贴片电阻-无丝印)
footprint R1210_NS (1/3W贴片电阻)
pins: 1, 2

## R_11
designator R?, comment 470
贴片电阻; 联系下单店铺卖家 免费帮你查找封装: 联系下单店铺卖家 免费技术支持; BOM名称: 贴片电阻
footprint R0201_L (1/20W贴片电阻)
footprint R0402_L (1/16W贴片电阻)
footprint R0603_L (1/10W贴片电阻)
footprint R0805_L (1/8W贴片电阻)
footprint R1206_L (1/4W贴片电阻)
footprint R1210_L (1/3W贴片电阻)
footprint R1812_L (1/2W贴片电阻)
footprint R2010_L (3/4W贴片电阻)
footprint R2512_L (1W贴片电阻)
footprint R0201_M (1/20W贴片电阻)
footprint R0402_M (1/16W贴片电阻)
footprint R0603_M (1/10W贴片电阻)
footprint R0805_M (1/8W贴片电阻)
footprint R1206_M (1/4W贴片电阻)
footprint R1210_M (1/3W贴片电阻)
footprint R1812_M (1/2W贴片电阻)
footprint R2010_M (3/4W贴片电阻)
footprint R2512_M (1W贴片电阻)
footprint R0201_NS (1/20W贴片电阻-无丝印)
footprint R0402_NS (1/16W贴片电阻-无丝印)
footprint R01005_NS (1/32W贴片电阻-无丝印)
footprint R0603_NS (1/10W贴片电阻-无丝印)
footprint R0805_NS (1/8W贴片电阻-无丝印)
footprint R1206_NS (1/4W贴片电阻-无丝印)
footprint R1210_NS (1/3W贴片电阻)
pins: 1, 2

## R_12
designator R?, comment 0
贴片电阻; 联系下单店铺卖家 免费帮你查找封装: 联系下单店铺卖家 免费技术支持; BOM名称: 贴片电阻
footprint R0201_L (1/20W贴片电阻)
footprint R0402_L (1/16W贴片电阻)
footprint R0603_L (1/10W贴片电阻)
footprint R0805_L (1/8W贴片电阻)
footprint R1206_L (1/4W贴片电阻)
footprint R1210_L (1/3W贴片电阻)
footprint R1812_L (1/2W贴片电阻)
footprint R2010_L (3/4W贴片电阻)
footprint R2512_L (1W贴片电阻)
footprint R0201_M (1/20W贴片电阻)
footprint R0402_M (1/16W贴片电阻)
footprint R0603_M (1/10W贴片电阻)
footprint R0805_M (1/8W贴片电阻)
footprint R1206_M (1/4W贴片电阻)
footprint R1210_M (1/3W贴片电阻)
footprint R1812_M (1/2W贴片电阻)
footprint R2010_M (3/4W贴片电阻)
footprint R2512_M (1W贴片电阻)
footprint R0201_NS (1/20W贴片电阻-无丝印)
footprint R0402_NS (1/16W贴片电阻-无丝印)
footprint R01005_NS (1/32W贴片电阻-无丝印)
footprint R0603_NS (1/10W贴片电阻-无丝印)
footprint R0805_NS (1/8W贴片电阻-无丝印)
footprint R1206_NS (1/4W贴片电阻-无丝印)
footprint R1210_NS (1/3W贴片电阻)
pins: 1, 2

## R_13
designator R?, comment 22
贴片电阻; 联系下单店铺卖家 免费帮你查找封装: 联系下单店铺卖家 免费技术支持; BOM名称: 贴片电阻
footprint R0201_L (1/20W贴片电阻)
footprint R0402_L (1/16W贴片电阻)
footprint R0603_L (1/10W贴片电阻)
footprint R0805_L (1/8W贴片电阻)
footprint R1206_L (1/4W贴片电阻)
footprint R1210_L (1/3W贴片电阻)
footprint R1812_L (1/2W贴片电阻)
footprint R2010_L (3/4W贴片电阻)
footprint R2512_L (1W贴片电阻)
footprint R0201_M (1/20W贴片电阻)
footprint R0402_M (1/16W贴片电阻)
footprint R0603_M (1/10W贴片电阻)
footprint R0805_M (1/8W贴片电阻)
footprint R1206_M (1/4W贴片电阻)
footprint R1210_M (1/3W贴片电阻)
footprint R1812_M (1/2W贴片电阻)
footprint R2010_M (3/4W贴片电阻)
footprint R2512_M (1W贴片电阻)
footprint R0201_NS (1/20W贴片电阻-无丝印)
footprint R0402_NS (1/16W贴片电阻-无丝印)
footprint R01005_NS (1/32W贴片电阻-无丝印)
footprint R0603_NS (1/10W贴片电阻-无丝印)
footprint R0805_NS (1/8W贴片电阻-无丝印)
footprint R1206_NS (1/4W贴片电阻-无丝印)
footprint R1210_NS (1/3W贴片电阻)
pins: 1, 2

## R_14
designator R?, comment 1.5k
贴片电阻; 联系下单店铺卖家 免费帮你查找封装: 联系下单店铺卖家 免费技术支持; BOM名称: 贴片电阻
footprint R0201_L (1/20W贴片电阻)
footprint R0402_L (1/16W贴片电阻)
footprint R0603_L (1/10W贴片电阻)
footprint R0805_L (1/8W贴片电阻)
footprint R1206_L (1/4W贴片电阻)
footprint R1210_L (1/3W贴片电阻)
footprint R1812_L (1/2W贴片电阻)
footprint R2010_L (3/4W贴片电阻)
footprint R2512_L (1W贴片电阻)
footprint R0201_M (1/20W贴片电阻)
footprint R0402_M (1/16W贴片电阻)
footprint R0603_M (1/10W贴片电阻)
footprint R0805_M (1/8W贴片电阻)
footprint R1206_M (1/4W贴片电阻)
footprint R1210_M (1/3W贴片电阻)
footprint R1812_M (1/2W贴片电阻)
footprint R2010_M (3/4W贴片电阻)
footprint R2512_M (1W贴片电阻)
footprint R0201_NS (1/20W贴片电阻-无丝印)
footprint R0402_NS (1/16W贴片电阻-无丝印)
footprint R01005_NS (1/32W贴片电阻-无丝印)
footprint R0603_NS (1/10W贴片电阻-无丝印)
footprint R0805_NS (1/8W贴片电阻-无丝印)
footprint R1206_NS (1/4W贴片电阻-无丝印)
footprint R1210_NS (1/3W贴片电阻)
pins: 1, 2

## R_15
designator R?, comment 10k/NC
贴片电阻; 联系下单店铺卖家 免费帮你查找封装: 联系下单店铺卖家 免费技术支持; BOM名称: 贴片电阻
footprint R0201_L (1/20W贴片电阻)
footprint R0402_L (1/16W贴片电阻)
footprint R0603_L (1/10W贴片电阻)
footprint R0805_L (1/8W贴片电阻)
footprint R1206_L (1/4W贴片电阻)
footprint R1210_L (1/3W贴片电阻)
footprint R1812_L (1/2W贴片电阻)
footprint R2010_L (3/4W贴片电阻)
footprint R2512_L (1W贴片电阻)
footprint R0201_M (1/20W贴片电阻)
footprint R0402_M (1/16W贴片电阻)
footprint R0603_M (1/10W贴片电阻)
footprint R0805_M (1/8W贴片电阻)
footprint R1206_M (1/4W贴片电阻)
footprint R1210_M (1/3W贴片电阻)
footprint R1812_M (1/2W贴片电阻)
footprint R2010_M (3/4W贴片电阻)
footprint R2512_M (1W贴片电阻)
footprint R0201_NS (1/20W贴片电阻-无丝印)
footprint R0402_NS (1/16W贴片电阻-无丝印)
footprint R01005_NS (1/32W贴片电阻-无丝印)
footprint R0603_NS (1/10W贴片电阻-无丝印)
footprint R0805_NS (1/8W贴片电阻-无丝印)
footprint R1206_NS (1/4W贴片电阻-无丝印)
footprint R1210_NS (1/3W贴片电阻)
pins: 1, 2

## R_16
designator R?, comment 2.49k
贴片电阻; 联系下单店铺卖家 免费帮你查找封装: 联系下单店铺卖家 免费技术支持; BOM名称: 贴片电阻
footprint R0201_L (1/20W贴片电阻)
footprint R0402_L (1/16W贴片电阻)
footprint R0603_L (1/10W贴片电阻)
footprint R0805_L (1/8W贴片电阻)
footprint R1206_L (1/4W贴片电阻)
footprint R1210_L (1/3W贴片电阻)
footprint R1812_L (1/2W贴片电阻)
footprint R2010_L (3/4W贴片电阻)
footprint R2512_L (1W贴片电阻)
footprint R0201_M (1/20W贴片电阻)
footprint R0402_M (1/16W贴片电阻)
footprint R0603_M (1/10W贴片电阻)
footprint R0805_M (1/8W贴片电阻)
footprint R1206_M (1/4W贴片电阻)
footprint R1210_M (1/3W贴片电阻)
footprint R1812_M (1/2W贴片电阻)
footprint R2010_M (3/4W贴片电阻)
footprint R2512_M (1W贴片电阻)
footprint R0201_NS (1/20W贴片电阻-无丝印)
footprint R0402_NS (1/16W贴片电阻-无丝印)
footprint R01005_NS (1/32W贴片电阻-无丝印)
footprint R0603_NS (1/10W贴片电阻-无丝印)
footprint R0805_NS (1/8W贴片电阻-无丝印)
footprint R1206_NS (1/4W贴片电阻-无丝印)
footprint R1210_NS (1/3W贴片电阻)
pins: 1, 2

## R_17
designator R?, comment 510
贴片电阻; 联系下单店铺卖家 免费帮你查找封装: 联系下单店铺卖家 免费技术支持; BOM名称: 贴片电阻
footprint R0201_L (1/20W贴片电阻)
footprint R0402_L (1/16W贴片电阻)
footprint R0603_L (1/10W贴片电阻)
footprint R0805_L (1/8W贴片电阻)
footprint R1206_L (1/4W贴片电阻)
footprint R1210_L (1/3W贴片电阻)
footprint R1812_L (1/2W贴片电阻)
footprint R2010_L (3/4W贴片电阻)
footprint R2512_L (1W贴片电阻)
footprint R0201_M (1/20W贴片电阻)
footprint R0402_M (1/16W贴片电阻)
footprint R0603_M (1/10W贴片电阻)
footprint R0805_M (1/8W贴片电阻)
footprint R1206_M (1/4W贴片电阻)
footprint R1210_M (1/3W贴片电阻)
footprint R1812_M (1/2W贴片电阻)
footprint R2010_M (3/4W贴片电阻)
footprint R2512_M (1W贴片电阻)
footprint R0201_NS (1/20W贴片电阻-无丝印)
footprint R0402_NS (1/16W贴片电阻-无丝印)
footprint R01005_NS (1/32W贴片电阻-无丝印)
footprint R0603_NS (1/10W贴片电阻-无丝印)
footprint R0805_NS (1/8W贴片电阻-无丝印)
footprint R1206_NS (1/4W贴片电阻-无丝印)
footprint R1210_NS (1/3W贴片电阻)
pins: 1, 2

## R_18
designator R?, comment NC
贴片电阻; 联系下单店铺卖家 免费帮你查找封装: 联系下单店铺卖家 免费技术支持; BOM名称: 贴片电阻
footprint R0201_L (1/20W贴片电阻)
footprint R0402_L (1/16W贴片电阻)
footprint R0603_L (1/10W贴片电阻)
footprint R0805_L (1/8W贴片电阻)
footprint R1206_L (1/4W贴片电阻)
footprint R1210_L (1/3W贴片电阻)
footprint R1812_L (1/2W贴片电阻)
footprint R2010_L (3/4W贴片电阻)
footprint R2512_L (1W贴片电阻)
footprint R0201_M (1/20W贴片电阻)
footprint R0402_M (1/16W贴片电阻)
footprint R0603_M (1/10W贴片电阻)
footprint R0805_M (1/8W贴片电阻)
footprint R1206_M (1/4W贴片电阻)
footprint R1210_M (1/3W贴片电阻)
footprint R1812_M (1/2W贴片电阻)
footprint R2010_M (3/4W贴片电阻)
footprint R2512_M (1W贴片电阻)
footprint R0201_NS (1/20W贴片电阻-无丝印)
footprint R0402_NS (1/16W贴片电阻-无丝印)
footprint R01005_NS (1/32W贴片电阻-无丝印)
footprint R0603_NS (1/10W贴片电阻-无丝印)
footprint R0805_NS (1/8W贴片电阻-无丝印)
footprint R1206_NS (1/4W贴片电阻-无丝印)
footprint R1210_NS (1/3W贴片电阻)
pins: 1, 2

## R_19
designator R?, comment 39
贴片电阻; 联系下单店铺卖家 免费帮你查找封装: 联系下单店铺卖家 免费技术支持; BOM名称: 贴片电阻
footprint R0201_L (1/20W贴片电阻)
footprint R0402_L (1/16W贴片电阻)
footprint R0603_L (1/10W贴片电阻)
footprint R0805_L (1/8W贴片电阻)
footprint R1206_L (1/4W贴片电阻)
footprint R1210_L (1/3W贴片电阻)
footprint R1812_L (1/2W贴片电阻)
footprint R2010_L (3/4W贴片电阻)
footprint R2512_L (1W贴片电阻)
footprint R0201_M (1/20W贴片电阻)
footprint R0402_M (1/16W贴片电阻)
footprint R0603_M (1/10W贴片电阻)
footprint R0805_M (1/8W贴片电阻)
footprint R1206_M (1/4W贴片电阻)
footprint R1210_M (1/3W贴片电阻)
footprint R1812_M (1/2W贴片电阻)
footprint R2010_M (3/4W贴片电阻)
footprint R2512_M (1W贴片电阻)
footprint R0201_NS (1/20W贴片电阻-无丝印)
footprint R0402_NS (1/16W贴片电阻-无丝印)
footprint R01005_NS (1/32W贴片电阻-无丝印)
footprint R0603_NS (1/10W贴片电阻-无丝印)
footprint R0805_NS (1/8W贴片电阻-无丝印)
footprint R1206_NS (1/4W贴片电阻-无丝印)
footprint R1210_NS (1/3W贴片电阻)
pins: 1, 2

## R_20
designator R?, comment 2.7k
贴片电阻; 联系下单店铺卖家 免费帮你查找封装: 联系下单店铺卖家 免费技术支持; BOM名称: 贴片电阻
footprint R0201_L (1/20W贴片电阻)
footprint R0402_L (1/16W贴片电阻)
footprint R0603_L (1/10W贴片电阻)
footprint R0805_L (1/8W贴片电阻)
footprint R1206_L (1/4W贴片电阻)
footprint R1210_L (1/3W贴片电阻)
footprint R1812_L (1/2W贴片电阻)
footprint R2010_L (3/4W贴片电阻)
footprint R2512_L (1W贴片电阻)
footprint R0201_M (1/20W贴片电阻)
footprint R0402_M (1/16W贴片电阻)
footprint R0603_M (1/10W贴片电阻)
footprint R0805_M (1/8W贴片电阻)
footprint R1206_M (1/4W贴片电阻)
footprint R1210_M (1/3W贴片电阻)
footprint R1812_M (1/2W贴片电阻)
footprint R2010_M (3/4W贴片电阻)
footprint R2512_M (1W贴片电阻)
footprint R0201_NS (1/20W贴片电阻-无丝印)
footprint R0402_NS (1/16W贴片电阻-无丝印)
footprint R01005_NS (1/32W贴片电阻-无丝印)
footprint R0603_NS (1/10W贴片电阻-无丝印)
footprint R0805_NS (1/8W贴片电阻-无丝印)
footprint R1206_NS (1/4W贴片电阻-无丝印)
footprint R1210_NS (1/3W贴片电阻)
pins: 1, 2

## R_21
designator R?, comment 22k
贴片电阻; 联系下单店铺卖家 免费帮你查找封装: 联系下单店铺卖家 免费技术支持; BOM名称: 贴片电阻
footprint R0201_L (1/20W贴片电阻)
footprint R0402_L (1/16W贴片电阻)
footprint R0603_L (1/10W贴片电阻)
footprint R0805_L (1/8W贴片电阻)
footprint R1206_L (1/4W贴片电阻)
footprint R1210_L (1/3W贴片电阻)
footprint R1812_L (1/2W贴片电阻)
footprint R2010_L (3/4W贴片电阻)
footprint R2512_L (1W贴片电阻)
footprint R0201_M (1/20W贴片电阻)
footprint R0402_M (1/16W贴片电阻)
footprint R0603_M (1/10W贴片电阻)
footprint R0805_M (1/8W贴片电阻)
footprint R1206_M (1/4W贴片电阻)
footprint R1210_M (1/3W贴片电阻)
footprint R1812_M (1/2W贴片电阻)
footprint R2010_M (3/4W贴片电阻)
footprint R2512_M (1W贴片电阻)
footprint R0201_NS (1/20W贴片电阻-无丝印)
footprint R0402_NS (1/16W贴片电阻-无丝印)
footprint R01005_NS (1/32W贴片电阻-无丝印)
footprint R0603_NS (1/10W贴片电阻-无丝印)
footprint R0805_NS (1/8W贴片电阻-无丝印)
footprint R1206_NS (1/4W贴片电阻-无丝印)
footprint R1210_NS (1/3W贴片电阻)
pins: 1, 2

## RV09_RV0932
designator R?, comment 10K
footprint RV09_RV0932
pins: 1, 2, 3

## TEST
designator TP?
测试点; 联系下单店铺卖家 免费技术支持: 联系下单店铺卖家 免费帮你查找封装; BOM名称: 测试点
footprint TEST 1 (测试点1mm)
footprint TEST 1.6 (测试点1.6mm)
footprint TEST 1.4 (测试点1.4mm)
footprint TEST 1.8 (测试点1.8mm)
footprint TEST 1.2 (测试点1.2mm)
footprint TEST 0.8 (测试点0.8mm)
footprint TEST 2.0 (测试点2.0mm)
footprint TEST 2.2 (测试点2.2mm)
footprint TEST 2.4 (测试点2.4mm)
footprint TEST 2.6 (测试点2.6mm)
pins: 1

## TPS2051BDBV
designator U?
footprint TPS2051BDBV
pins: 1 OUT, 2 GND, 3 OC, 4 EN, 5 IN

## USB2.0_Type-A_F
designator USB?, comment USB
USB2.0_Type-A母座; 联系下单店铺卖家 免费技术支持: 联系下单店铺卖家 免费帮你查找封装; BOM名称: USB2.0_Type-A母座
footprint USB2.0_Type-A_DIP_F_1 (USB2.0_Type-A直插母座)
footprint USB2.0_Type-A_DIP_F_2 (USB2.0_Type-A直插母座)
footprint USB2.0_Type-A_DIP_F_3 (USB2.0_Type-A直插立式母座)
footprint USB2.0_Type-A_DIP_F_4 (USB2.0_Type-A侧插短体无卷边 90度母座)
footprint USB2.0_Type-A_SMD_F_1 (USB2.0_Type-A贴片母座)
footprint USB2.0_Type-A_SMD_F_2 (USB2.0_Type-A贴片母座，无卷边)
pins: 1 VCC, 2 D-, 3 D+, 4 GND

## USB2.0_Type-C_16Pin
designator USBC?, comment TYPE-C 2.0 -16P
USB2.0_Type-C_16Pin母座; 联系下单店铺卖家 免费技术支持: 联系下单店铺卖家 免费帮你查找封装
footprint USB-C-SMD_16P (封装库来自淘宝ID:黄晶宝石)
pins: 0, 0, 0, 0, A1 GND, A4 VBUS, A5 CC1, A6 DP1, A7 DN1, A8 SBU1, A9 VBUS, A12 GND, B1 GND, B4 VBUS, B5 CC2, B6 DP2, B7 DN2, B8 SBU2, B9 VBUS, B12 GND

## XTAL-4P
designator X?, comment 26M
4脚无源晶振(谐振器）; 联系下单店铺卖家 免费帮你查找封装: 联系下单店铺卖家 免费技术支持; BOM名称: 4脚无源晶振(谐振器）
footprint XTAL-1612-4P (1.6*1.2*0.35mm（长宽高）)
footprint XTAL-2025-4P (2*2.5*0.55mm(长宽高))
footprint XTAL-3225-4P (3.2*2.5*0.7mm(长宽高))
footprint XTAL-4025-4P (4*2.5*0.7mm(长宽高))
footprint XTAL-5032-4P (5mm*3.2mm*0.8mm(长*宽*高)                 淘宝ID:黄晶宝石)
footprint XTAL-6035-4P (6mm*3.5mm*1mm(长*宽*高))
footprint XTAL-7050-4P (7mm*5mm*1.3mm(长*宽*高))
footprint XTAL-8045-4P (8mm*4.5mm*1.6mm(长*宽*高)  淘宝卖家 ID：黄晶宝石)
footprint XTAL-8045-4P-C (8mm*4.5mm*1.8mm(长*宽*高)                    淘宝ID:黄晶宝石)
pins: 1, 2, 3, 4

## XTAL-4P_1
designator X?, comment 12M
4脚无源晶振(谐振器）; 联系下单店铺卖家 免费帮你查找封装: 联系下单店铺卖家 免费技术支持; BOM名称: 4脚无源晶振(谐振器）
footprint XTAL-1612-4P (1.6*1.2*0.35mm（长宽高）)
footprint XTAL-2025-4P (2*2.5*0.55mm(长宽高))
footprint XTAL-3225-4P (3.2*2.5*0.7mm(长宽高))
footprint XTAL-4025-4P (4*2.5*0.7mm(长宽高))
footprint XTAL-5032-4P (5mm*3.2mm*0.8mm(长*宽*高)                 淘宝ID:黄晶宝石)
footprint XTAL-6035-4P (6mm*3.5mm*1mm(长*宽*高))
footprint XTAL-7050-4P (7mm*5mm*1.3mm(长*宽*高))
footprint XTAL-8045-4P (8mm*4.5mm*1.6mm(长*宽*高)  淘宝卖家 ID：黄晶宝石)
footprint XTAL-8045-4P-C (8mm*4.5mm*1.8mm(长*宽*高)                    淘宝ID:黄晶宝石)
pins: 1, 2, 3, 4

## XTAL-4P_2
designator X?, comment 25M
4脚无源晶振(谐振器）; 联系下单店铺卖家 免费帮你查找封装: 联系下单店铺卖家 免费技术支持; BOM名称: 4脚无源晶振(谐振器）
footprint XTAL-1612-4P (1.6*1.2*0.35mm（长宽高）)
footprint XTAL-2025-4P (2*2.5*0.55mm(长宽高))
footprint XTAL-3225-4P (3.2*2.5*0.7mm(长宽高))
footprint XTAL-4025-4P (4*2.5*0.7mm(长宽高))
footprint XTAL-5032-4P (5mm*3.2mm*0.8mm(长*宽*高)                 淘宝ID:黄晶宝石)
footprint XTAL-6035-4P (6mm*3.5mm*1mm(长*宽*高))
footprint XTAL-7050-4P (7mm*5mm*1.3mm(长*宽*高))
footprint XTAL-8045-4P (8mm*4.5mm*1.6mm(长*宽*高)  淘宝卖家 ID：黄晶宝石)
footprint XTAL-8045-4P-C (8mm*4.5mm*1.8mm(长*宽*高)                    淘宝ID:黄晶宝石)
pins: 1, 2, 3, 4

## XTAL-ACT-4P
designator X?, comment 24M
4脚有源晶振(振荡器); 联系下单店铺卖家 免费帮你查找封装: 联系下单店铺卖家 免费技术支持; BOM名称: 有源晶振(振荡器)
footprint OSC-1612-4P (1.6*1.2*0.35mm（长宽高）)
footprint OSC-2025-4P (2*2.5*0.55mm(长宽高))
footprint OSC-3225-4P (3.2*2.5*0.7mm(长宽高))
footprint OSC-4025-4P (4*2.5*0.7mm(长宽高))
footprint OSC-5032-4P (5mm*3.2mm*0.8mm(长*宽*高)              淘宝ID:黄晶宝石)
footprint OSC-6035-4P (6mm*3.5mm*1mm(长*宽*高))
footprint OSC-7050-4P (7mm*5mm*1.3mm(长*宽*高))
footprint OSC-8045-4P (8mm*4.5mm*1.6mm(长*宽*高)              淘宝ID:黄晶宝石)
footprint OSC-8045-4P-C (8mm*4.5mm*1.8mm(长*宽*高)              淘宝ID:黄晶宝石)
pins: 1 EN/NC, 2 GND, 3 OUT, 4 VCC

## YT8511C/H
designator U?
千兆以太网PHY
footprint QFN40 5X5_N (40脚，体宽：5x5mm，脚距：0.4mm)
pins: 1 RESET_N (in), 2 LX (out), 3 VDD33 (power), 4 XTL_OUT (out), 5 XTL_IN (in), 6 AVDDL (power), 7 RBIAS (out), 8 VDDH_REG (power), 9 TXP0 (io), 10 TXN0 (io), 11 AVDDL (power), 12 TXP1 (io), 13 TXN1 (io), 14 AVDD33 (power), 15 TXP2 (io), 16 TXN2 (io), 17 AVDDL (power), 18 TXP3 (io), 19 TXN3 (io), 20 INT, 21 LED_ACT (io), 22 LED_1000 (out), 23 CLK_25M (out), 24 LED_10_100 (io), 25 RXD3 (out), 26 RXD2 (out), 27 VDDIO (power), 28 RXD1 (out), 29 RXD0 (out), 30 RX_DV, 31 RX_CLK, 32 TX_EN (in), 33 GTX_CLK (in), 34 TXD0 (in), 35 TXD1 (in), 36 TXD2 (in), 37 TXD3 (in), 38 DVDDL (power), 39 MDIO (io), 40 MDC (in), 41 EP (power)